# EAGLE library part AYZ0202 (library LITTLEBITS140826)
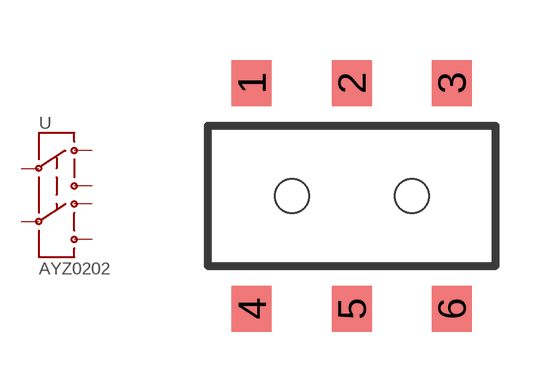
[diagram p15: symbol with the pads of AYZ0202; footprint AYZ0202]

Designator prefix -

## AYZ0202  [AYZ0202]
1  1
2  2
3  3
4  4
5  5
6  6

## Footprint AYZ0202 (pad centres in mm)
smd 1 x 1.15: 1 -2.5,2.825; 2 0,2.825; 3 2.5,2.825; 4 -2.5,-2.825; 5 0,-2.825; 6 2.5,-2.825
hole 0.85 at 1.5,0
hole 0.85 at -1.5,0